# Altium schematic symbol library zynq_dev_V1.SchLib: 65 symbols (part 2 of 3)
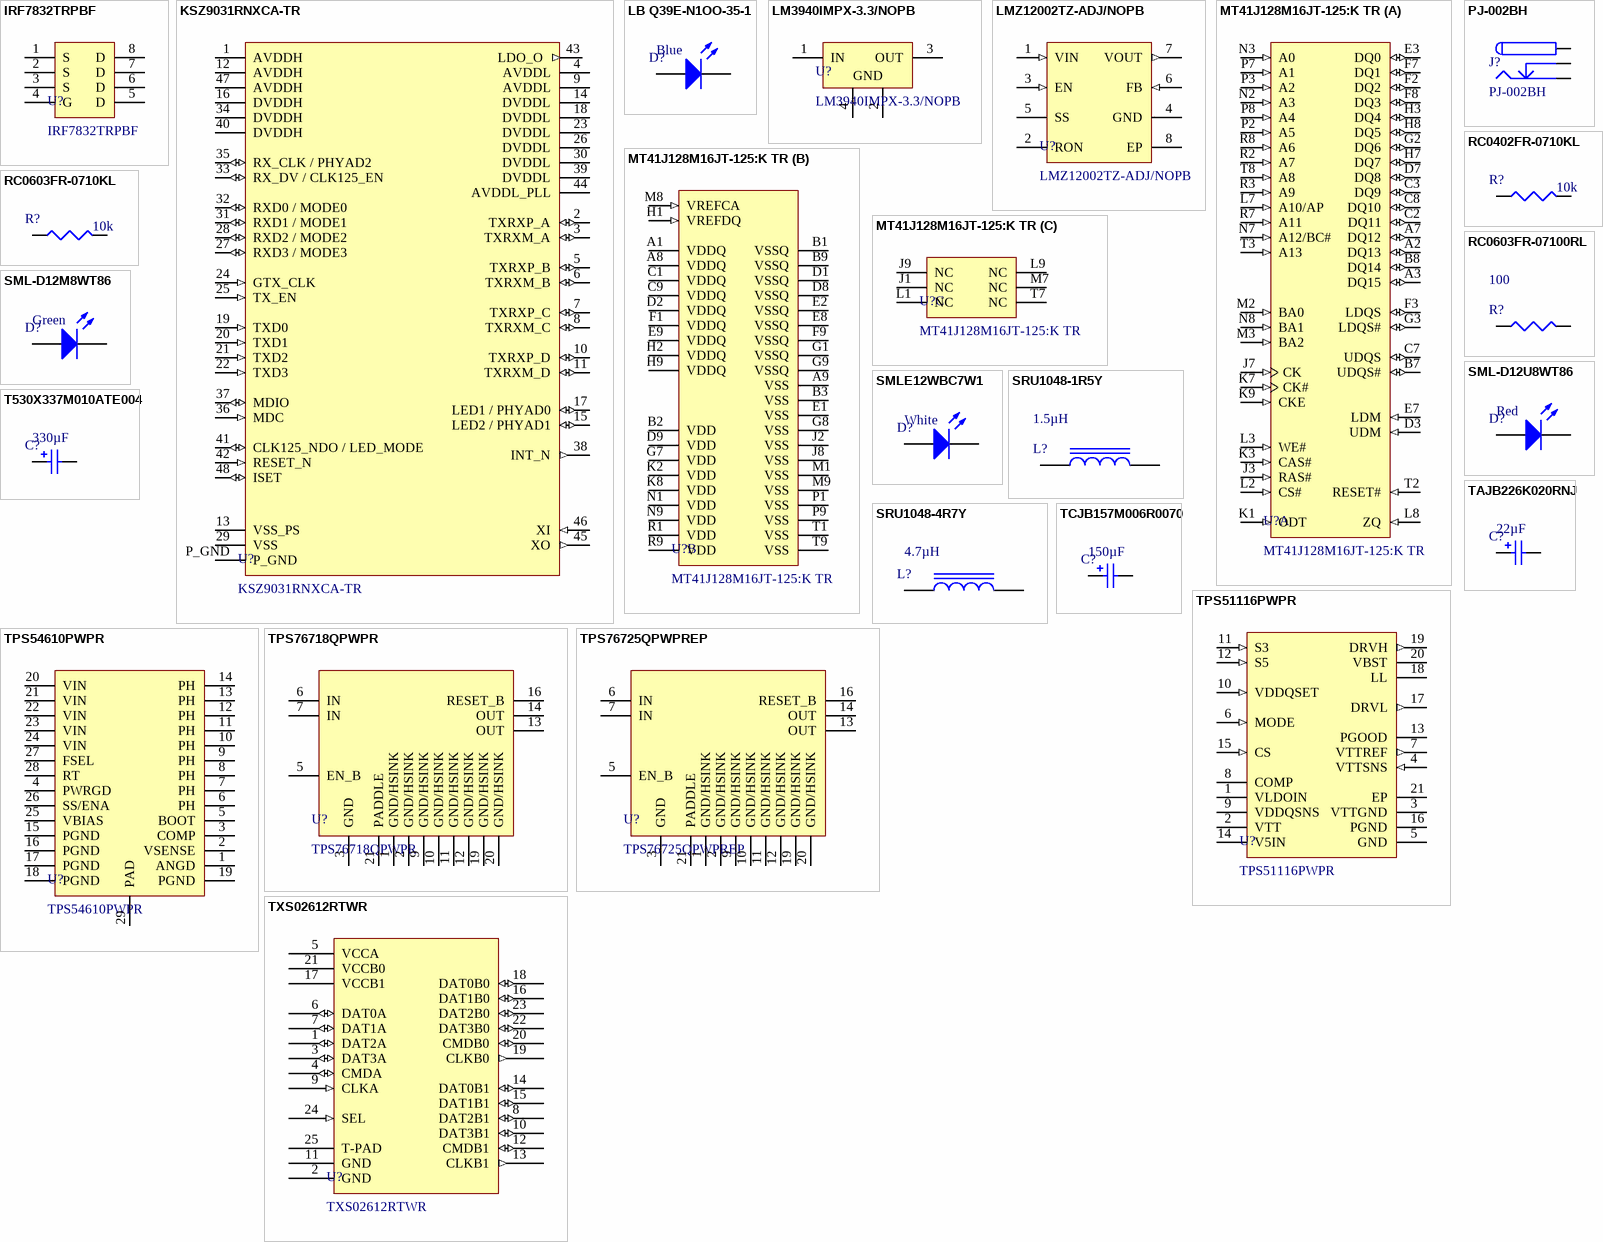
[diagram p4: symbols IRF7832TRPBF to TXS02612RTWR]

## LM3940IMPX-3.3/NOPB
designator U?
IC REG LDO 3.3V 1A SOT223; Manufacturer: Texas Instruments; Regulator Topology: Positive Fixed; Voltage - Dropout (Typical): 0.5V @ 1A; Number of Regulators: 1; Voltage - Input: Up to 7.5V; Supplier 1: Digi-Key; Manufacturer Part Number: LM3940IMPX-3.3/NOPB; RoHS: RoHS Compliant; Category: Integrated Circuits (ICs); Stock 1: 15650; Pricing 1: 1=1.49, 10=1.332, 100=1.0381, 500=0.85848, 1000=0.6789 (USD); Packaging: Cut Tape (CT); Voltage - Output: 3.3V; Current - Output: 1A; Current - Limit (Min): -; Operating Temperature: -40°C ~ 125°C; Mounting Type: Surface Mount; Package / Case: TO-261-4, TO-261AA; Supplier Device Package: SOT-223-4; ComponentLink1URL: http://www.ti.com/lit/ds/symlink/lm3940.pdf; ComponentLink1Description: http://www.ti.com/lit/ds/symlink/lm3940.pdf; Supplier Part Number 1: LM3940IMPX-3.3/NOPBCT-ND
footprint SOT230P700X180-4N (SOT223, 4-Leads, Body 6.50x7.00mm (avg), Pitch 2.30mm, IPC Medium Density)
pins: 1 IN (power) "Input pin.", 2 GND (power) "Ground pin", 3 OUT (power) "Regulated output voltage pin", 4 GND (power) "Ground pin"

## LMZ12002TZ-ADJ/NOPB
designator U?
IC BUCK SYNC ADJ 2A TO-PMOD-7; Manufacturer: Texas Instruments; Number of Outputs: 1; Voltage - Input (Min): 4.5V; Voltage - Input (Max): 20V; Voltage - Output 1: 0.8 ~ 6 V; Efficiency: 92%; Supplier 1: Digi-Key; Manufacturer Part Number: LMZ12002TZ-ADJ/NOPB; RoHS: RoHS Compliant; Category: Power Supplies - Board Mount; Stock 1: 1050; Pricing 1: 1=8.54, 5=8.474, 10=8.412, 25=8.2864, 50=8.0352, 100=7.2819 (USD); Packaging: Cut Tape (CT); Type: Non-Isolated PoL Module; Voltage - Output 2: -; Voltage - Output 3: -; Current - Output (Max): 2A; Power (Watts) - Manufacture Series: -; Voltage - Isolation: -; Applications: ITE (Commercial); Features: With UVLO; Mounting Type: Surface Mount; Package / Case: TO-PMOD-7, Power Module; Size / Dimension: 0.40" L x 0.54" W x 0.18" H (10.2mm x 13.8mm x 4.6mm); Operating Temperature: -40°C ~ 125°C; Power (Watts) - Max: -; ComponentLink1URL: http://www.ti.com/lit/ds/symlink/lmz12002.pdf; ComponentLink1Description: http://www.ti.com/lit/ds/symlink/lmz12002.pdf; Supplier Part Number 1: LMZ12002TZ-ADJ/NOPBCT-ND
footprint TZA07A_V (D2-PAK, 8-Leads, Body 9.9x10.2mm, Pitch 1.27mm, Lead Span 13.8mm, NSC Recommended)
pins: 1 VIN (in), 2 RON, 3 EN (in), 4 GND (power), 5 SS, 6 FB (in), 7 VOUT (out), 8 EP

## MT41J128M16JT-125:K TR
designator U?
IC DDR3 SDRAM 2GBIT 96FBGA; Manufacturer: Micron Technology Inc.; Format - Memory: RAM; Memory Size: 2G (128M x 16); Speed: 1.25ns; Interface: Parallel; Voltage - Supply: 1.425 V ~ 1.575 V; Supplier 1: Digi-Key; Manufacturer Part Number: MT41J128M16JT-125:K TR; RoHS: RoHS Compliant; Category: Integrated Circuits (ICs); Stock 1: 3472; Pricing 1: 1=4.47, 10=4.054, 25=3.966, 50=3.944, 100=3.538, 250=3.524, 500=3.394, 1000=3.228 (USD); Packaging: Cut Tape (CT); Memory Type: DDR3 SDRAM; Operating Temperature: 0°C ~ 95°C (TC); Package / Case: 96-TFBGA; Supplier Device Package: 96-FBGA (8x14); ComponentLink1URL: http://www.micron.com/~/media/Documents/Products/Data%20Sheet/DRAM/DDR3/2Gb_DDR3_SDRAM.pdf; ComponentLink1Description: http://www.micron.com/~/media/Documents/Products/Data%20Sheet/DRAM/DDR3/2Gb_DDR3_SDRAM.pdf; Supplier Part Number 1: 557-1611-1-ND
footprint MICT-JT-96 (BGA, 96-Balls, Body 14x8mm, Pitch 0.8mm)
part A pins: A2 DQ13 (io) "Data input/output: Upper byte of bidirectional data bus for the x16 configuration. DQ[15:8] are referenced to VREFDQ.", A3 DQ15 (io) "Data input/output: Upper byte of bidirectional data bus for the x16 configuration. DQ[15:8] are referenced to VREFDQ.", A7 DQ12 (io) "Data input/output: Upper byte of bidirectional data bus for the x16 configuration. DQ[15:8] are referenced to VREFDQ.", B7 UDQS# (io) "Upper byte data strobe: Output with read data. Edge-aligned with read data. Input with write data. UDQS is center-aligned to write data.", B8 DQ14 (io) "Data input/output: Upper byte of bidirectional data bus for the x16 configuration. DQ[15:8] are referenced to VREFDQ.", C2 DQ11 (io) "Data input/output: Upper byte of bidirectional data bus for the x16 configuration. DQ[15:8] are referenced to VREFDQ.", C3 DQ9 (io) "Data input/output: Upper byte of bidirectional data bus for the x16 configuration. DQ[15:8] are referenced to VREFDQ.", C7 UDQS (io) "Upper byte data strobe: Output with read data. Edge-aligned with read data. Input with write data. UDQS is center-aligned to write data.", C8 DQ10 (io) "Data input/output: Upper byte of bidirectional data bus for the x16 configuration. DQ[15:8] are referenced to VREFDQ.", D3 UDM (in) "Input data mask: UDM is an upper-byte, input mask signal for write data. Upper-byte input data is masked when UDM is sampled HIGH along with the input data during a write access. Although the UDM ball is input-only, the UDM (See Datasheet)", D7 DQ8 (io) "Data input/output: Upper byte of bidirectional data bus for the x16 configuration. DQ[15:8] are referenced to VREFDQ.", E3 DQ0 (io) "Data input/output: Lower byte of bidirectional data bus for the x16 configuration. DQ[7:0] are referenced to VREFDQ.", E7 LDM (in) "Input data mask: LDM is a lower-byte, input mask signal for write data. Lower-byte input data is masked when LDM is sampled HIGH along with the input data during a write access. Although the LDM ball is input-only, the LDM (See Datasheet)", F2 DQ2 (io) "Data input/output: Lower byte of bidirectional data bus for the x16 configuration. DQ[7:0] are referenced to VREFDQ.", F3 LDQS (io) "Lower byte data strobe: Output with read data. Edge-aligned with read data. Input with write data. LDQS is center-aligned to write data.", F7 DQ1 (io) "Data input/output: Lower byte of bidirectional data bus for the x16 configuration. DQ[7:0] are referenced to VREFDQ.", F8 DQ3 (io) "Data input/output: Lower byte of bidirectional data bus for the x16 configuration. DQ[7:0] are referenced to VREFDQ.", G2 DQ6 (io) "Data input/output: Lower byte of bidirectional data bus for the x16 configuration. DQ[7:0] are referenced to VREFDQ.", G3 LDQS# (io) "Lower byte data strobe: Output with read data. Edge-aligned with read data. Input with write data. LDQS is center-aligned to write data.", H3 DQ4 (io) "Data input/output: Lower byte of bidirectional data bus for the x16 configuration. DQ[7:0] are referenced to VREFDQ.", H7 DQ7 (io) "Data input/output: Lower byte of bidirectional data bus for the x16 configuration. DQ[7:0] are referenced to VREFDQ.", H8 DQ5 (io) "Data input/output: Lower byte of bidirectional data bus for the x16 configuration. DQ[7:0] are referenced to VREFDQ.", J3 RAS# (in) "Command inputs: RAS#, CAS#, and WE# (along with CS#) define the command being entered and are referenced to VREFCA.", J7 CK (in) "Clock: CK and CK# are differential clock inputs. All address and control input signals are sampled on the crossing of the positive edge of CK and the negative edge of CK#. Output data strobe (DQS, DQS#) is referenced to the (See Datasheet)", K1 ODT (in) "On-die termination: ODT enables (registered HIGH) and disables (registered LOW) termination resistance internal to the DDR3 SDRAM. When enabled in normal operation,ODT is only applied to each of the following balls: (See Datasheet)", K3 CAS# (in) "Command inputs: RAS#, CAS#, and WE# (along with CS#) define the command being entered and are referenced to VREFCA.", K7 CK# (in) "Clock: CK and CK# are differential clock inputs. All address and control input signals are sampled on the crossing of the positive edge of CK and the negative edge of CK#. Output data strobe (LDQS,L DQS#,UDQS,UDQS#) is (See Datasheet)", K9 CKE (in) "Clock enable: CKE enables (registered HIGH) and disables (registered LOW) internal circuitry and clocks on the DRAM. The specific circuitry that is enabled/disabled is dependent upon the DDR3 SDRAM configuration and (See Datasheet)", L2 CS# (in) "Chip select: CS# enables (registered LOW) and disables (registered HIGH) the command decoder. All commands are masked when CS# is registered HIGH. CS# provides for external rank selection on systems with multiple ranks. CS# (See Datasheet)", L3 WE# (in) "Command inputs: RAS#, CAS#, and WE# (along with CS#) define the command being entered and are referenced to VREFCA.", L7 A10/AP (in) "Address inputs: Provide the row address for ACTIVATE commands, and the column address and auto precharge bit (A10) for READ/WRITE commands, to select one location out of the memory array in the respective bank. A10 sampled (See Datasheet)", L8 ZQ (in) "External reference ball for output drive calibration: This ball is tied to an external 240ohm resistor (RZQ), which is tied to VSSQ.", M2 BA0 (in) "Bank address inputs: BA[2:0] define the bank to which an ACTIVATE, READ, WRITE, or PRECHARGE command is being applied. BA[2:0] define which mode register (MR0, MR1, MR2, or MR3) is loaded during the LOAD MODE command. (See Datasheet)", M3 BA2 (in) "Bank address inputs: BA[2:0] define the bank to which an ACTIVATE, READ, WRITE, or PRECHARGE command is being applied. BA[2:0] define which mode register (MR0, MR1, MR2, or MR3) is loaded during the LOAD MODE command. (See Datasheet)", N2 A3 (in) "Address inputs: Provide the row address for ACTIVATE commands, and the column address and auto precharge bit (A10) for READ/WRITE commands, to select one location out of the memory array in the respective bank. A10 sampled (See Datasheet)", N3 A0 (in) "Address inputs: Provide the row address for ACTIVATE commands, and the column address and auto precharge bit (A10) for READ/WRITE commands, to select one location out of the memory array in the respective bank. A10 sampled (See Datasheet)", N7 A12/BC# (in) "Address inputs: Provide the row address for ACTIVATE commands, and the column address and auto precharge bit (A10) for READ/WRITE commands, to select one location out of the memory array in the respective bank. A10 sampled (See Datasheet)", N8 BA1 (in) "Bank address inputs: BA[2:0] define the bank to which an ACTIVATE, READ, WRITE, or PRECHARGE command is being applied. BA[2:0] define which mode register (MR0, MR1, MR2, or MR3) is loaded during the LOAD MODE command. (See Datasheet)", P2 A5 (in) "Address inputs: Provide the row address for ACTIVATE commands, and the column address and auto precharge bit (A10) for READ/WRITE commands, to select one location out of the memory array in the respective bank. A10 sampled (See Datasheet)", P3 A2 (in) "Address inputs: Provide the row address for ACTIVATE commands, and the column address and auto precharge bit (A10) for READ/WRITE commands, to select one location out of the memory array in the respective bank. A10 sampled (See Datasheet)", P7 A1 (in) "Address inputs: Provide the row address for ACTIVATE commands, and the column address and auto precharge bit (A10) for READ/WRITE commands, to select one location out of the memory array in the respective bank. A10 sampled (See Datasheet)", P8 A4 (in) "Address inputs: Provide the row address for ACTIVATE commands, and the column address and auto precharge bit (A10) for READ/WRITE commands, to select one location out of the memory array in the respective bank. A10 sampled (See Datasheet)", R2 A7 (in) "Address inputs: Provide the row address for ACTIVATE commands, and the column address and auto precharge bit (A10) for READ/WRITE commands, to select one location out of the memory array in the respective bank. A10 sampled (See Datasheet)", R3 A9 (in) "Address inputs: Provide the row address for ACTIVATE commands, and the column address and auto precharge bit (A10) for READ/WRITE commands, to select one location out of the memory array in the respective bank. A10 sampled (See Datasheet)", R7 A11 (in) "Address inputs: Provide the row address for ACTIVATE commands, and the column address and auto precharge bit (A10) for READ/WRITE commands, to select one location out of the memory array in the respective bank. A10 sampled (See Datasheet)", R8 A6 (in) "Address inputs: Provide the row address for ACTIVATE commands, and the column address and auto precharge bit (A10) for READ/WRITE commands, to select one location out of the memory array in the respective bank. A10 sampled (See Datasheet)", T2 RESET# (in) "Reset: RESET# is an active LOW CMOS input referenced to VSS. The RESET# input receiver is a CMOS input defined as a rail-to-rail signal with DC HIGH >= 0.8 x VDDQ and DC LOW =< 0.2 x VDDQ. RESET# assertion and deassertion (See Datasheet)", T3 A13 (in) "Address inputs: Provide the row address for ACTIVATE commands, and the column address and auto precharge bit (A10) for READ/WRITE commands, to select one location out of the memory array in the respective bank. A10 sampled (See Datasheet)", T8 A8 (in) "Address inputs: Provide the row address for ACTIVATE commands, and the column address and auto precharge bit (A10) for READ/WRITE commands, to select one location out of the memory array in the respective bank. A10 sampled (See Datasheet)"
part B pins: A1 VDDQ (power) "DQ power supply: 1.35V, 1.283-1.45V operational; compatible with 1.5V operation.", A8 VDDQ (power) "DQ power supply: 1.35V, 1.283-1.45V operational; compatible with 1.5V operation.", A9 VSS (power) "Ground.", B1 VSSQ (power) "DQ ground: Isolated on the device for improved noise immunity.", B2 VDD (power) "Power supply: 1.35V, 1.283-1.45V operational; compatible to 1.5V operation.", B3 VSS (power) "Ground.", B9 VSSQ (power) "DQ ground: Isolated on the device for improved noise immunity.", C1 VDDQ (power) "DQ power supply: 1.35V, 1.283-1.45V operational; compatible with 1.5V operation.", C9 VDDQ (power) "DQ power supply: 1.35V, 1.283-1.45V operational; compatible with 1.5V operation.", D1 VSSQ (power) "DQ ground: Isolated on the device for improved noise immunity.", D2 VDDQ (power) "DQ power supply: 1.35V, 1.283-1.45V operational; compatible with 1.5V operation.", D8 VSSQ (power) "DQ ground: Isolated on the device for improved noise immunity.", D9 VDD (power) "Power supply: 1.35V, 1.283-1.45V operational; compatible to 1.5V operation.", E1 VSS (power) "Ground.", E2 VSSQ (power) "DQ ground: Isolated on the device for improved noise immunity.", E8 VSSQ (power) "DQ ground: Isolated on the device for improved noise immunity.", E9 VDDQ (power) "DQ power supply: 1.35V, 1.283-1.45V operational; compatible with 1.5V operation.", F1 VDDQ (power) "DQ power supply: 1.35V, 1.283-1.45V operational; compatible with 1.5V operation.", F9 VSSQ (power) "DQ ground: Isolated on the device for improved noise immunity.", G1 VSSQ (power) "DQ ground: Isolated on the device for improved noise immunity.", G7 VDD (power) "Power supply: 1.35V, 1.283-1.45V operational; compatible to 1.5V operation.", G8 VSS (power) "Ground.", G9 VSSQ (power) "DQ ground: Isolated on the device for improved noise immunity.", H1 VREFDQ (in) "Reference voltage for data: VREFDQ must be maintained at all times (including self refresh) for proper device operation.", H2 VDDQ (power) "DQ power supply: 1.35V, 1.283-1.45V operational; compatible with 1.5V operation.", H9 VDDQ (power) "DQ power supply: 1.35V, 1.283-1.45V operational; compatible with 1.5V operation.", J2 VSS (power) "Ground.", J8 VSS (power) "Ground.", K2 VDD (power) "Power supply: 1.35V, 1.283-1.45V operational; compatible to 1.5V operation.", K8 VDD (power) "Power supply: 1.35V, 1.283-1.45V operational; compatible to 1.5V operation.", M1 VSS (power) "Ground.", M8 VREFCA (in) "Reference voltage for control, command, and address: VREFCA must be maintained at all times (including self refresh) for proper device operation.", M9 VSS (power) "Ground.", N1 VDD (power) "Power supply: 1.35V, 1.283-1.45V operational; compatible to 1.5V operation.", N9 VDD (power) "Power supply: 1.35V, 1.283-1.45V operational; compatible to 1.5V operation.", P1 VSS (power) "Ground.", P9 VSS (power) "Ground.", R1 VDD (power) "Power supply: 1.35V, 1.283-1.45V operational; compatible to 1.5V operation.", R9 VDD (power) "Power supply: 1.35V, 1.283-1.45V operational; compatible to 1.5V operation.", T1 VSS (power) "Ground.", T9 VSS (power) "Ground."
part C pins: J1 NC "No connect: These balls should be left unconnected (the ball has no connection to the DRAM or to other balls).", J9 NC "No connect: These balls should be left unconnected (the ball has no connection to the DRAM or to other balls).", L1 NC "No connect: These balls should be left unconnected (the ball has no connection to the DRAM or to other balls).", L9 NC "No connect: These balls should be left unconnected (the ball has no connection to the DRAM or to other balls).", M7 NC "No connect: These balls should be left unconnected (the ball has no connection to the DRAM or to other balls).", T7 NC "No connect: These balls should be left unconnected (the ball has no connection to the DRAM or to other balls)."

## PJ-002BH
designator J?
CONN PWR JACK 2.5X5.5MM HIGH CUR; Manufacturer: CUI Inc.; Gender: Male; Plug/Mating Plug Diameter: 2.5mm ID, 5.5mm OD; Number of Positions/Contacts: 2 Conductors, 3 Contacts; Internal Switch(s): Single Switch, Normally Closed; Shielding: Unshielded; Voltage - Rated: 24VDC; Current Rating: 5A; Supplier 1: Digi-Key; Manufacturer Part Number: PJ-002BH; RoHS: RoHS Compliant; Category: Connectors, Interconnects; Stock 1: 59401; Pricing 1: 1=1.16, 10=0.812, 100=0.5452, 500=0.4408, 1000=0.3944, 2500=0.3132 (USD); Connector Type: Jack; Mounting Type: Through Hole, Right Angle; Termination: Solder Eyelet(s); Features: -; Color: Black; Contact Material: Copper Alloy; Contact Material - Plating: Nickel; Housing Color: Black; Housing Material: Thermoplastic; Operating Temperature: -25°C ~ 85°C; ComponentLink1URL: http://www.cui.com/product/resource/digikeypdf/pj-002bh.pdf; ComponentLink1Description: http://www.cui.com/product/resource/digikeypdf/pj-002bh.pdf; Supplier Part Number 1: CP-002BH-ND
footprint PJ-002BH (2.5 mm Center Pin, 5.0 A, Right Angle, Through Hole, Dc Power Jack Connector)
pins: 1 (power), 2 (power), 3 (power)

## RC0402FR-0710KL
designator R?  Resistance (Ohms): 10k  (hidden comment: RC0402FR-0710KL)
RES SMD 10K OHM 1% 1/16W 0402; Manufacturer: Yageo; Power (Watts): 0.063W, 1/16W; Temperature Coefficient: ±100ppm/°C; Supplier 1: Digi-Key; Manufacturer Part Number: RC0402FR-0710KL; RoHS: RoHS Compliant; Category: Resistors; Stock 1: 6043320; Pricing 1: 1=0.1, 10=0.013, 25=0.0096, 100=0.0054, 250=0.00412, 500=0.00328, 1000=0.00242, 2500=0.0021, 5000=0.00173 (USD); Packaging: Cut Tape (CT); Tolerance: ±1%; Composition: Thick Film; Features: Moisture Resistant; Operating Temperature: -55°C ~ 155°C; Package / Case: 0402 (1005 Metric); Supplier Device Package: 0402; Size / Dimension: 0.039" L x 0.020" W (1.00mm x 0.50mm); Height: 0.016" (0.40mm); Number of Terminations: 2; ComponentLink1URL: http://www.yageo.com/NewPortal/yageodocoutput?fileName=/pdf/R-Chip/PYu-RC_Group_51_RoHS_L_3.pdf; ComponentLink1Description: http://www.yageo.com/NewPortal/yageodocoutput?fileName=/pdf/R-Chip/PYu-RC_Group_51_RoHS_L_3.pdf; Supplier Part Number 1: 311-10.0KLRCT-ND
footprint R0402 (Chip Resistor, 2-Leads, Body 1.00x0.50mm, IPC Medium Density)
pins: 1, 2

## RC0603FR-0710KL
designator R?  Resistance (Ohms): 10k  (hidden comment: RC0603FR-0710KL)
RES SMD 10K OHM 1% 1/10W 0603; Manufacturer: Yageo; Power (Watts): 0.1W, 1/10W; Temperature Coefficient: ±100ppm/°C; Supplier 1: Digi-Key; Manufacturer Part Number: RC0603FR-0710KL; RoHS: RoHS Compliant; Category: Resistors; Stock 1: 16651166; Pricing 1: 1=0.1, 10=0.014, 25=0.01, 100=0.0057, 250=0.00436, 500=0.00348, 1000=0.00257, 2500=0.00223 (USD); Packaging: Cut Tape (CT); Tolerance: ±1%; Composition: Thick Film; Features: Moisture Resistant; Operating Temperature: -55°C ~ 155°C; Package / Case: 0603 (1608 Metric); Supplier Device Package: 0603; Size / Dimension: 0.063" L x 0.031" W (1.60mm x 0.80mm); Height: 0.022" (0.55mm); Number of Terminations: 2; ComponentLink1URL: http://www.yageo.com/NewPortal/yageodocoutput?fileName=/pdf/R-Chip/PYu-RC_Group_51_RoHS_L_3.pdf; ComponentLink1Description: http://www.yageo.com/NewPortal/yageodocoutput?fileName=/pdf/R-Chip/PYu-RC_Group_51_RoHS_L_3.pdf; Supplier Part Number 1: 311-10.0KHRCT-ND
footprint R0603 (Chip Resistor, 2-Leads, Body 1.60x0.80mm, IPC Medium Density)
pins: 1, 2

## RC0603FR-07100RL
designator R?  Resistance (Ohms): 100  (hidden comment: RC0603FR-07100RL)
RES SMD 100 OHM 1% 1/10W 0603; Manufacturer: Yageo; Power (Watts): 0.1W, 1/10W; Temperature Coefficient: ±100ppm/°C; Supplier 1: Digi-Key; Manufacturer Part Number: RC0603FR-07100RL; RoHS: RoHS Compliant; Category: Resistors; Stock 1: 2614734; Pricing 1: 1=0.1, 10=0.014, 25=0.01, 100=0.0057, 250=0.00436, 500=0.00348, 1000=0.00257, 2500=0.00223 (USD); Packaging: Cut Tape (CT); Tolerance: ±1%; Composition: Thick Film; Features: Moisture Resistant; Operating Temperature: -55°C ~ 155°C; Package / Case: 0603 (1608 Metric); Supplier Device Package: 0603; Size / Dimension: 0.063" L x 0.031" W (1.60mm x 0.80mm); Height: 0.022" (0.55mm); Number of Terminations: 2; ComponentLink1URL: http://www.yageo.com/NewPortal/yageodocoutput?fileName=/pdf/R-Chip/PYu-RC_Group_51_RoHS_L_3.pdf; ComponentLink1Description: http://www.yageo.com/NewPortal/yageodocoutput?fileName=/pdf/R-Chip/PYu-RC_Group_51_RoHS_L_3.pdf; Supplier Part Number 1: 311-100HRCT-ND
footprint R0603 (Chip Resistor, 2-Leads, Body 1.60x0.80mm, IPC Medium Density)
pins: 1, 2

## SML-D12M8WT86
designator D?  Color: Green  (hidden comment: SML-D12M8WT86)
LED GREEN DIFFUSED 0603 SMD; Manufacturer: Rohm Semiconductor; Lens Color: White; Millicandela Rating: 25mcd; Lens Style/Size: Rectangle with Flat Top, 1.20mm x 0.80mm; Voltage - Forward (Vf) (Typ): 2.2V; Current - Test: 20mA; Wavelength - Dominant: 572nm; Supplier 1: Digi-Key; Manufacturer Part Number: SML-D12M8WT86; RoHS: RoHS Compliant; Category: Optoelectronics; Stock 1: 36910; Pricing 1: 1=0.34, 10=0.264, 25=0.228, 100=0.144, 250=0.096, 500=0.0816, 1000=0.0624 (USD); Packaging: Cut Tape (CT); Lens Transparency: Diffused; Viewing Angle: -; Mounting Type: Surface Mount; Wavelength - Peak: -; Features: -; Package / Case: 0603 (1608 Metric); Supplier Device Package: 0603 (1608 Metric); Size / Dimension: 1.60mm L x 0.80mm W; Height (Max): 0.65mm; ComponentLink1URL: http://rohmfs.rohm.com/en/products/databook/datasheet/opto/led/chip_mono/sml-d1.pdf; ComponentLink1Description: http://rohmfs.rohm.com/en/products/databook/datasheet/opto/led/chip_mono/sml-d1.pdf; Supplier Part Number 1: 511-1578-1-ND
pins: 1 A, 2 K

## SML-D12U8WT86
designator D?  Color: Red  (hidden comment: SML-D12U8WT86)
LED RED DIFFUSED 0603 SMD; Manufacturer: Rohm Semiconductor; Lens Color: White; Millicandela Rating: 63mcd; Lens Style/Size: Rectangle with Flat Top, 1.20mm x 0.80mm; Voltage - Forward (Vf) (Typ): 2.2V; Current - Test: 20mA; Wavelength - Dominant: 620nm; Supplier 1: Digi-Key; Manufacturer Part Number: SML-D12U8WT86; RoHS: RoHS Compliant; Category: Optoelectronics; Stock 1: 13583; Pricing 1: 1=0.34, 10=0.264, 25=0.228, 100=0.144, 250=0.096, 500=0.0816, 1000=0.0624 (USD); Packaging: Cut Tape (CT); Lens Transparency: Diffused; Viewing Angle: -; Mounting Type: Surface Mount; Wavelength - Peak: -; Features: -; Package / Case: 0603 (1608 Metric); Supplier Device Package: 0603 (1608 Metric); Size / Dimension: 1.60mm L x 0.80mm W; Height (Max): 0.65mm; ComponentLink1URL: http://rohmfs.rohm.com/en/products/databook/datasheet/opto/led/chip_mono/sml-d1.pdf; ComponentLink1Description: http://rohmfs.rohm.com/en/products/databook/datasheet/opto/led/chip_mono/sml-d1.pdf; Supplier Part Number 1: 511-1580-1-ND
pins: 1 A, 2 K

## SMLE12WBC7W1
designator D?  Color: White  (hidden comment: SMLE12WBC7W1)
LED WHITE DIFFUSED 0603 SMD; Manufacturer: Rohm Semiconductor; Millicandela Rating: 71mcd; Lens Style/Size: Rectangle with Flat Top, 1.20mm x 0.80mm; Voltage - Forward (Vf) (Typ): 2.9V; Current - Test: 5mA; Supplier 1: Digi-Key; Manufacturer Part Number: SMLE12WBC7W1; RoHS: RoHS Compliant; Category: Optoelectronics; Stock 1: 29713; Pricing 1: 1=0.75, 10=0.578, 25=0.48, 100=0.4125, 250=0.36, 500=0.315, 1000=0.2475, 2500=0.225 (USD); Packaging: Cut Tape (CT); Lens Color: White; Lens Transparency: Diffused; Viewing Angle: -; Mounting Type: Surface Mount; Wavelength - Dominant: -; Wavelength - Peak: -; Features: -; Package / Case: 0603 (1608 Metric); Supplier Device Package: 0603 (1608 Metric); Size / Dimension: 1.60mm L x 0.80mm W; Height (Max): 0.46mm; ComponentLink1URL: http://rohmfs.rohm.com/en/products/databook/datasheet/opto/led/chip_mono/sml-e1.pdf; ComponentLink1Description: http://rohmfs.rohm.com/en/products/databook/datasheet/opto/led/chip_mono/sml-e1.pdf; Supplier Part Number 1: 511-1602-1-ND
pins: 1 A, 2 K

## SRU1048-1R5Y
designator L?  Inductance: 1.5µH  (hidden comment: SRU1048-1R5Y)
FIXED IND 1.5UH 7A 4.3 MOHM SMD; Manufacturer: Bourns Inc.; Type: Wirewound; Material - Core: Ferrite; Tolerance: ±30%; Current - Saturation: 7.2A; Shielding: Shielded; Q @ Freq: 14 @ 7.96MHz; Frequency - Self Resonant: 70MHz; Frequency - Test: 100kHz; Supplier 1: Digi-Key; Manufacturer Part Number: SRU1048-1R5Y; RoHS: RoHS Compliant; Category: Inductors, Coils, Chokes; Stock 1: 1754; Pricing 1: 1=0.8, 10=0.75, 25=0.7, 50=0.6, 100=0.57, 250=0.52 (USD); Packaging: Cut Tape (CT); Current Rating: 7A; DC Resistance (DCR): 4.3 mOhm; Ratings: -; Operating Temperature: -40°C ~ 125°C; Mounting Type: Surface Mount; Package / Case: Nonstandard; Size / Dimension: 0.394" L x 0.394" W (10.00mm x 10.00mm); Height - Seated (Max): 0.201" (5.10mm); ComponentLink1URL: http://www.bourns.com/docs/Product-Datasheets/SRU1048.pdf; ComponentLink1Description: http://www.bourns.com/docs/Product-Datasheets/SRU1048.pdf; Supplier Part Number 1: SRU1048-1R5YCT-ND
footprint INDP9898X51N (Precision Wire Wound Inductor, 2-Leads, Body 9.80x9.80mm, IPC Medium Density)
pins: 1, 2

## SRU1048-4R7Y
designator L?  Inductance: 4.7µH  (hidden comment: SRU1048-4R7Y)
FIXED IND 4.7UH 5.5A 9.5 MOHM; Manufacturer: Bourns Inc.; Type: Wirewound; Material - Core: Ferrite; Tolerance: ±30%; Current - Saturation: 4.75A; Shielding: Shielded; Q @ Freq: 12 @ 7.96MHz; Frequency - Self Resonant: 30MHz; Frequency - Test: 100kHz; Supplier 1: Digi-Key; Manufacturer Part Number: SRU1048-4R7Y; RoHS: RoHS Compliant; Category: Inductors, Coils, Chokes; Stock 1: 6353; Pricing 1: 1=0.8, 10=0.75, 25=0.7, 50=0.6, 100=0.57, 250=0.52 (USD); Packaging: Cut Tape (CT); Current Rating: 5.5A; DC Resistance (DCR): 9.5 mOhm; Ratings: -; Operating Temperature: -40°C ~ 125°C; Mounting Type: Surface Mount; Package / Case: Nonstandard; Size / Dimension: 0.394" L x 0.394" W (10.00mm x 10.00mm); Height - Seated (Max): 0.201" (5.10mm); ComponentLink1URL: http://www.bourns.com/docs/Product-Datasheets/SRU1048.pdf; ComponentLink1Description: http://www.bourns.com/docs/Product-Datasheets/SRU1048.pdf; Supplier Part Number 1: SRU1048-4R7YCT-ND
footprint INDP9898X51N (Precision Wire Wound Inductor, 2-Leads, Body 9.80x9.80mm, IPC Medium Density)
pins: 1, 2

## T530X337M010ATE004
designator C?  Capacitance: 330µF  (hidden comment: T530X337M010ATE004)
CAP TANT POLY 330UF 10V 2917; Manufacturer: Kemet; Manufacturer Size Code: X; Tolerance: ±20%; ESR (Equivalent Series Resistance): 4 mOhm; Type: Molded; Lifetime @ Temp.: 2000 Hrs @ 105°C; Supplier 1: Digi-Key; Manufacturer Part Number: T530X337M010ATE004; RoHS: RoHS Compliant; Category: Capacitors; Stock 1: 1250; Pricing 1: 1=8.22, 10=7.685, 50=7.2876, 100=6.625, 250=5.69752 (USD); Packaging: Cut Tape (CT); Voltage - Rated: 10V; Operating Temperature: -55°C ~ 125°C; Mounting Type: Surface Mount; Package / Case: 2917 (7343 Metric); Size / Dimension: 0.287" L x 0.169" W (7.30mm x 4.30mm); Height - Seated (Max): 0.169" (4.30mm); Lead Spacing: -; Features: General Purpose; ComponentLink1URL: http://www.kemet.com/docfinder?Partnumber=T530X337M010ATE004; ComponentLink1Description: http://www.kemet.com/docfinder?Partnumber=T530X337M010ATE004; Supplier Part Number 1: 399-10378-1-ND
footprint CAP_POL_2917 (Molded Capacitor, 2-Leads, Body 7.30x4.30mm, IPC Medium Density)
pins: 1, 2

## TAJB226K020RNJ
designator C?  Capacitance: 22µF  (hidden comment: TAJB226K020RNJ)
CAP TANT 22UF 20V 10% 1210; Manufacturer: AVX Corporation; Manufacturer Size Code: B; ESR (Equivalent Series Resistance): 1.8 Ohm; Type: Molded; Supplier 1: Digi-Key; Manufacturer Part Number: TAJB226K020RNJ; RoHS: RoHS Compliant; Category: Capacitors; Stock 1: 649792; Pricing 1: 1=0.88, 10=0.838, 100=0.4063, 250=0.33752, 500=0.30626, 1000=0.28125 (USD); Packaging: Cut Tape (CT); Tolerance: ±10%; Voltage - Rated: 20V; Operating Temperature: -55°C ~ 125°C; Mounting Type: Surface Mount; Package / Case: 1210 (3528 Metric); Size / Dimension: 0.138" L x 0.110" W (3.50mm x 2.80mm); Height - Seated (Max): 0.083" (2.10mm); Lead Spacing: -; Features: General Purpose; Lifetime @ Temp.: -; ComponentLink1URL: http://datasheets.avx.com/TAJ.pdf; ComponentLink1Description: http://datasheets.avx.com/TAJ.pdf; Supplier Part Number 1: 478-1683-1-ND
footprint CAP_POL_1210 (Molded Capacitor, 2-Leads, Body 3.50x2.85mm, IPC Medium Density)
pins: 1, 2

## TCJB157M006R0070
designator C?  Capacitance: 150µF  (hidden comment: TCJB157M006R0070)
CAP TANT POLY 150UF 6.3V 1210; Manufacturer: AVX Corporation; Manufacturer Size Code: B; Tolerance: ±20%; ESR (Equivalent Series Resistance): 70 mOhm; Type: Molded; Supplier 1: Digi-Key; Manufacturer Part Number: TCJB157M006R0070; RoHS: RoHS Compliant; Category: Capacitors; Stock 1: 9013; Pricing 1: 1=2.48, 10=2.03, 100=1.4355, 250=1.188, 500=1.06426, 1000=0.9405 (USD); Packaging: Cut Tape (CT); Voltage - Rated: 6.3V; Operating Temperature: -55°C ~ 105°C; Mounting Type: Surface Mount; Package / Case: 1210 (3528 Metric); Size / Dimension: 0.138" L x 0.110" W (3.50mm x 2.80mm); Height - Seated (Max): 0.083" (2.10mm); Lead Spacing: -; Features: Polymer; Lifetime @ Temp.: -; ComponentLink1URL: http://datasheets.avx.com/TCJ.pdf; ComponentLink1Description: http://datasheets.avx.com/TCJ.pdf; Supplier Part Number 1: 478-4921-1-ND
footprint CAP_POL_1210 (Molded Capacitor, 2-Leads, Body 3.50x2.85mm, IPC Medium Density)
pins: 1, 2

## TPS51116PWPR
designator U?
IC DDR SYNC BUC CTRL REF20HTSSOP; Manufacturer: Texas Instruments; Voltage - Input: 3 V ~ 28 V; Number of Outputs: 1; Voltage - Output: 1.5V, 1.8V, 2.5V; Supplier 1: Digi-Key; Manufacturer Part Number: TPS51116PWPR; RoHS: RoHS Compliant; Category: Integrated Circuits (ICs); Stock 1: 935; Pricing 1: 1=3.02, 10=2.711, 100=2.1747, 500=1.7874, 1000=1.24125 (USD); Packaging: Cut Tape (CT); Applications: Controller, DDR; Operating Temperature: -40°C ~ 85°C; Mounting Type: Surface Mount; Package / Case: 20-TSSOP (0.173", 4.40mm Width) Exposed Pad; Supplier Device Package: 20-HTSSOP; ComponentLink1URL: http://www.ti.com/lit/ds/symlink/tps51116.pdf; ComponentLink1Description: http://www.ti.com/lit/ds/symlink/tps51116.pdf; Supplier Part Number 1: 296-26972-1-ND
footprint TSOP65P640X120_HS-21N (TSOP, 20-Leads, Body 6.50x4.40mm, Pitch 0.65mm, Thermal Pad 3.70x2.40mm, IPC Medium Density)
pins: 1 VLDOIN (power) "Power supply for the VTT LDO.", 2 VTT (power) "Power output for the VTT LDO.", 3 VTTGND (power) "Power ground output for the VTT LDO.", 4 VTTSNS (in) "Voltage sense input for the VTT LDO. Connect to plus terminal of the VTT LDO output capacitor.", 5 GND (power) "Signal ground. Connect to minus terminal of the VTT LDO output capacitor.", 6 MODE (in) "Discharge mode setting pin. See VDDQ and VTT Discharge Control section.", 7 VTTREF (out) "VTTREF buffered reference output.", 8 COMP "Output of the transconductance amplifier for phase compensation. Connect to V5IN to disable gm amplifier and use D-CAP mode.", 9 VDDQSNS "VDDQ reference input for VTT and VTTREF. Power supply for the VTTREF. Discharge current sinking terminal for VDDQ Non-tracking discharge. Output voltage feedback input for VDDQ output if VDDQSET pin is connected to V5IN or (See Datasheet)", 10 VDDQSET (in) "VDDQ output voltage setting pin. See VDDQ Output Voltage Selection section.", 11 S3 (in) "S3 signal input.", 12 S5 (in) "S5 signal input.", 13 PGOOD (oc) "Powergood signal open drain output, In HIGH state when VDDQ output voltage is within the target range.", 14 V5IN (power) "5-V power supply input for internal circuits (PWP) and MOSFET gate drivers (PWP, RGE).", 15 CS (in) "Current sense comparator input (-) for resistor current sense scheme. Or overcurrent trip voltage setting input for RDS(on) current sense scheme if connected to V5IN (PWP), V5FILT (RGE) through the voltage setting resistor.", 16 PGND (power) "Ground for rectifying (bottom) MOSFET gate driver (PWP, RGE). Also current sense comparator input(+) and ground for powergood circuit (PWP).", 17 DRVL (out) "Rectifying (bottom) MOSFET gate drive output.", 18 LL (power) "Switching (top) MOSFET gate driver return. Current sense comparator input (-) for RDS(on) current sense.", 19 DRVH (out) "Switching (top) MOSFET gate drive output.", 20 VBST (power) "Switching (top) MOSFET driver bootstrap voltage input.", 21 EP (power) "Exposed Thermal Pad."

## TPS54610PWPR
designator U?
IC REG BUCK ADJ 6A SYNC 28HTSSOP; Manufacturer: Texas Instruments; Function: Step-Down; Output Configuration: Positive; Output Type: Adjustable; Number of Outputs: 1; Voltage - Input (Min): 3V; Voltage - Input (Max): 6V; Voltage - Output (Min/Fixed): 0.891V; Voltage - Output (Max): 5.4V; Frequency - Switching: 350kHz, 550kHz; Synchronous Rectifier: Yes; Supplier 1: Digi-Key; Manufacturer Part Number: TPS54610PWPR; RoHS: RoHS Compliant; Category: Integrated Circuits (ICs); Stock 1: 3948; Pricing 1: 1=6.84, 10=6.194, 100=5.1057, 500=4.464, 1000=3.4875 (USD); Packaging: Cut Tape (CT); Topology: Buck; Current - Output: 6A; Operating Temperature: -40°C ~ 85°C (TA); Mounting Type: Surface Mount; Package / Case: 28-TSSOP (0.173", 4.40mm Width) Exposed Pad; Supplier Device Package: 28-HTSSOP; ComponentLink1URL: http://www.ti.com/lit/ds/symlink/tps54610.pdf; ComponentLink1Description: http://www.ti.com/lit/ds/symlink/tps54610.pdf; Supplier Part Number 1: 296-26998-1-ND
footprint TSOP65P640X120_HS-29N (TSOP, 28-Leads, Body 9.70x4.40mm, Pitch 0.65mm, Thermal Pad 6.17x2.40mm, IPC Medium Density)
pins: 1 ANGD, 2 VSENSE, 3 COMP, 4 PWRGD, 5 BOOT, 6 PH, 7 PH, 8 PH, 9 PH, 10 PH, 11 PH, 12 PH, 13 PH, 14 PH, 15 PGND, 16 PGND, 17 PGND, 18 PGND, 19 PGND, 20 VIN, 21 VIN, 22 VIN, 23 VIN, 24 VIN, 25 VBIAS, 26 SS/ENA, 27 FSEL, 28 RT, 29 PAD

## TPS76718QPWPR
designator U?
IC REG LDO 1.8V 1A 20HTSSOP; Manufacturer: Texas Instruments; Regulator Topology: Positive Fixed; Number of Regulators: 1; Voltage - Input: 2.7 V ~ 10 V; Current - Limit (Min): 1.2A; Supplier 1: Digi-Key; Manufacturer Part Number: TPS76718QPWPR; RoHS: RoHS Compliant; Category: Integrated Circuits (ICs); Stock 1: 779; Pricing 1: 1=3.1, 10=2.778, 100=2.2793, 500=1.93914, 1000=1.4175 (USD); Packaging: Cut Tape (CT); Voltage - Output: 1.8V; Current - Output: 1A; Voltage - Dropout (Typical): -; Operating Temperature: -40°C ~ 125°C; Mounting Type: Surface Mount; Package / Case: 20-TSSOP (0.173", 4.40mm Width) Exposed Pad; Supplier Device Package: 20-HTSSOP; ComponentLink1URL: http://www.ti.com/lit/ds/symlink/tps76701.pdf; ComponentLink1Description: http://www.ti.com/lit/ds/symlink/tps76701.pdf; Supplier Part Number 1: 296-37450-1-ND
footprint TSOP65P640X120_HS-21N (TSOP, 20-Leads, Body 6.50x4.40mm, Pitch 0.65mm, Thermal Pad 3.70x2.40mm, IPC Medium Density)
pins: 1 GND/HSINK, 2 GND/HSINK, 3 GND, 5 EN_B, 6 IN, 7 IN, 9 GND/HSINK, 10 GND/HSINK, 11 GND/HSINK, 12 GND/HSINK, 13 OUT, 14 OUT, 16 RESET_B, 19 GND/HSINK, 20 GND/HSINK, 21 PADDLE

## TPS76725QPWPREP
designator U?
IC REG LDO 2.5V 1A 20HTSSOP; Manufacturer: Texas Instruments; Regulator Topology: Positive Fixed; Number of Regulators: 1; Voltage - Input: 2.7 V ~ 10 V; Supplier 1: Digi-Key; Manufacturer Part Number: TPS76725QPWPREP; RoHS: RoHS non-compliant; Category: Integrated Circuits (ICs); Stock 1: 1442; Pricing 1: 1=3.69, 10=3.308, 100=2.7135, 500=2.3085, 1000=1.6875 (USD); Packaging: Cut Tape (CT); Voltage - Output: 2.5V; Current - Output: 1A; Voltage - Dropout (Typical): -; Current - Limit (Min): -; Operating Temperature: -40°C ~ 125°C; Mounting Type: Surface Mount; Package / Case: 20-TSSOP (0.173", 4.40mm Width) Exposed Pad; Supplier Device Package: 20-HTSSOP; ComponentLink1URL: http://www.ti.com/lit/ds/symlink/tps76715-ep.pdf; ComponentLink1Description: http://www.ti.com/lit/ds/symlink/tps76715-ep.pdf; Supplier Part Number 1: 296-18157-1-ND
footprint TSOP65P640X120_HS-21N (TSOP, 20-Leads, Body 6.50x4.40mm, Pitch 0.65mm, Thermal Pad 3.70x2.40mm, IPC Medium Density)
pins: 1 GND/HSINK, 2 GND/HSINK, 3 GND, 5 EN_B, 6 IN, 7 IN, 9 GND/HSINK, 10 GND/HSINK, 11 GND/HSINK, 12 GND/HSINK, 13 OUT, 14 OUT, 16 RESET_B, 19 GND/HSINK, 20 GND/HSINK, 21 PADDLE

## TXS02612RTWR
designator U?
IC SDIO PORT EXPANDER 24WQFN; Manufacturer: Texas Instruments; Voltage - Supply: 1.1 V ~ 3.6 V; Supplier 1: Digi-Key; Manufacturer Part Number: TXS02612RTWR; RoHS: RoHS Compliant; Category: Integrated Circuits (ICs); Stock 1: 9728; Pricing 1: 1=1.6, 10=1.429, 100=1.1139, 500=0.9212, 1000=0.7285 (USD); Packaging: Cut Tape (CT); Applications: Cell Phone; Interface: SDIO; Package / Case: 24-WQFN Exposed Pad; Supplier Device Package: 24-WQFN (4x4); Mounting Type: Surface Mount; ComponentLink1URL: http://www.ti.com/lit/ds/symlink/txs02612.pdf; ComponentLink1Description: http://www.ti.com/lit/ds/symlink/txs02612.pdf; Supplier Part Number 1: 296-23869-1-ND
pins: 1 DAT2A (io), 2 GND (power), 3 DAT3A (io), 4 CMDA (io), 5 VCCA (power), 6 DAT0A (io), 7 DAT1A (io), 8 DAT2B1 (io), 9 CLKA (in), 10 DAT3B1 (io), 11 GND (power), 12 CMDB1 (io), 13 CLKB1 (out), 14 DAT0B1 (io), 15 DAT1B1 (io), 16 DAT1B0 (io), 17 VCCB1 (power), 18 DAT0B0 (io), 19 CLKB0 (out), 20 CMDB0 (io), 21 VCCB0 (power), 22 DAT3B0 (io), 23 DAT2B0 (io), 24 SEL (in), 25 T-PAD (power)

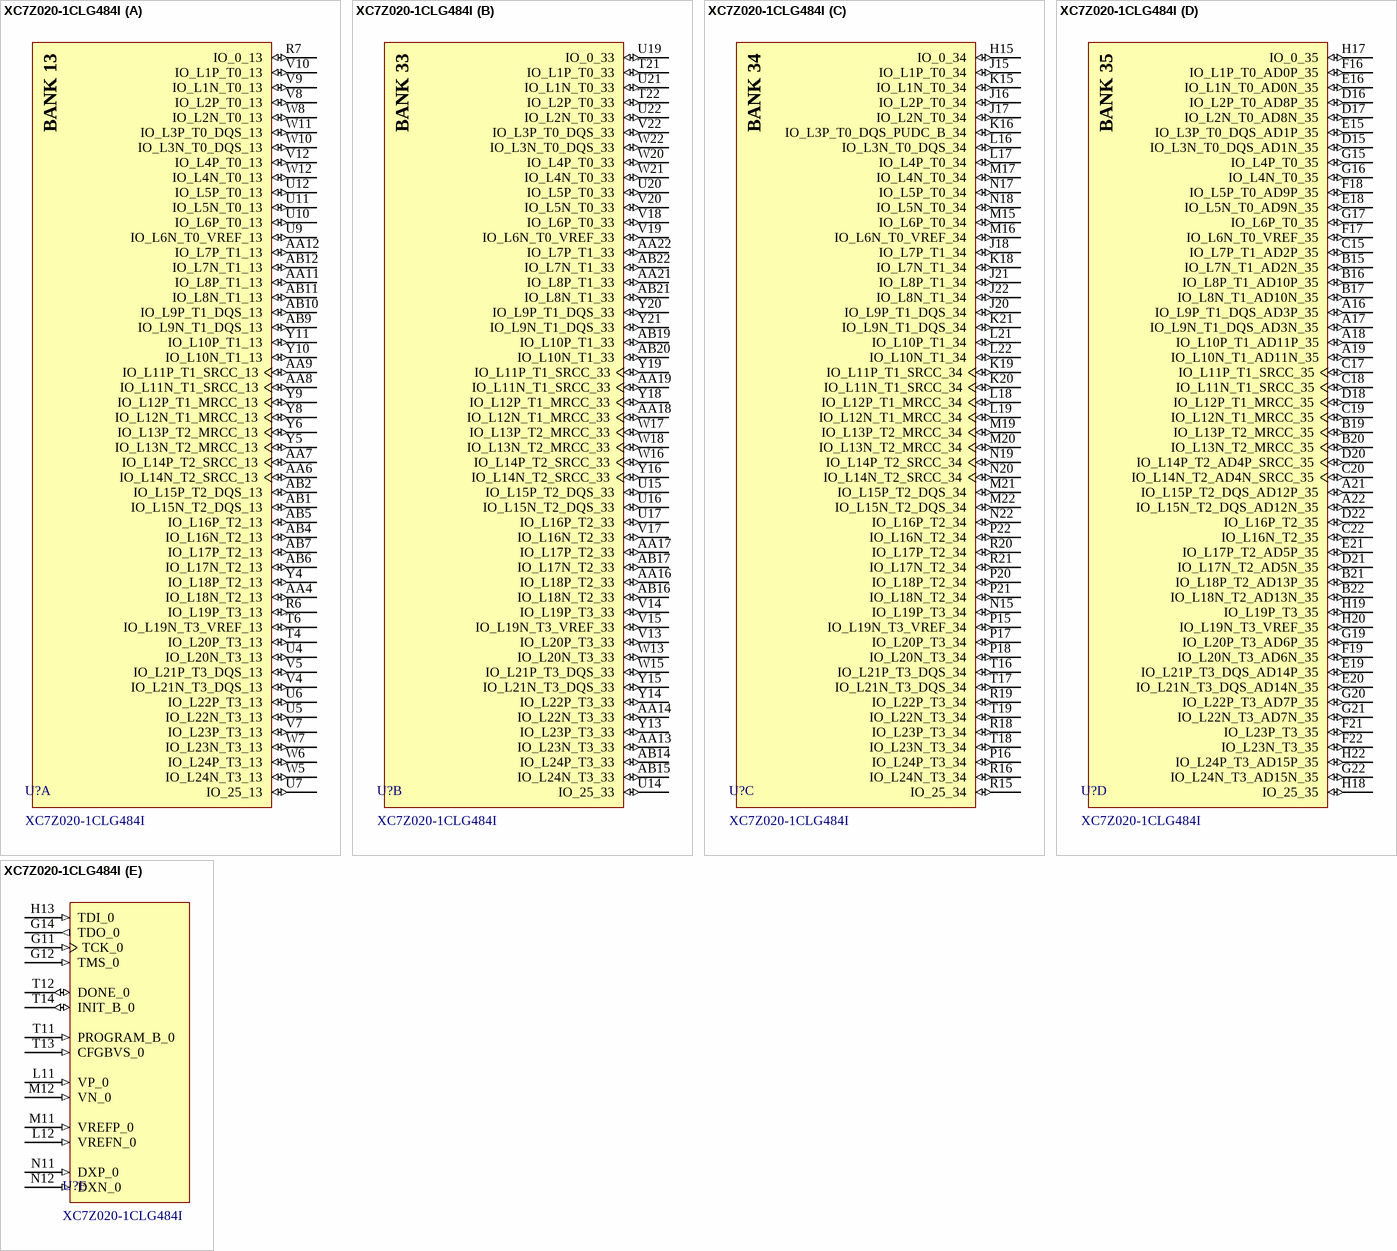
[diagram p2: symbol XC7Z020-1CLG484I]

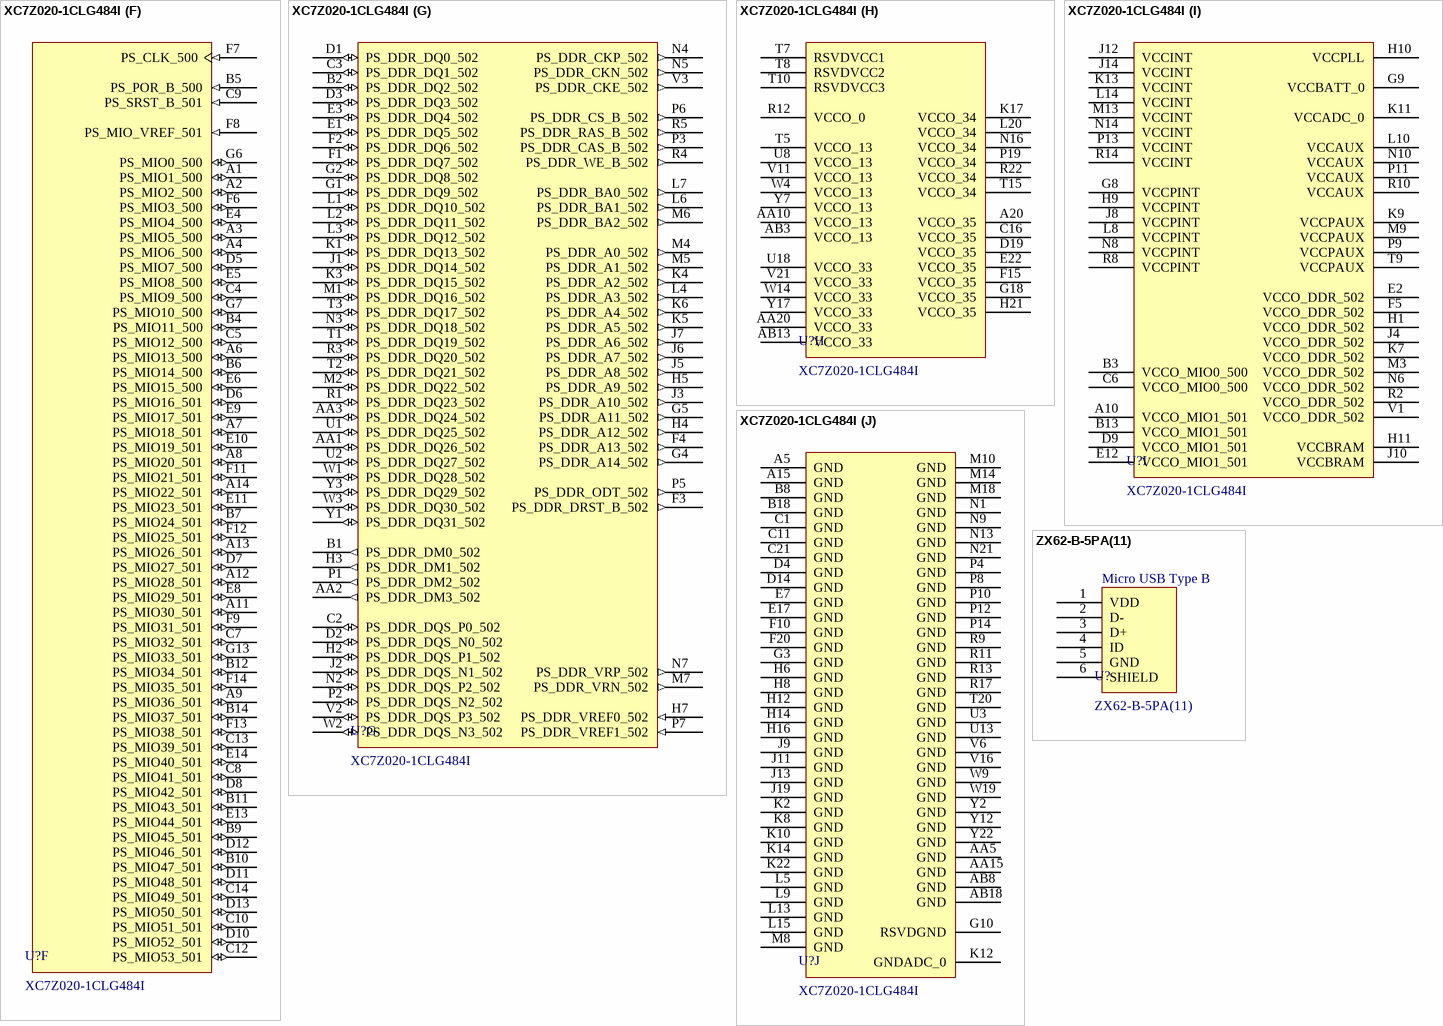
[diagram p3: symbols XC7Z020-1CLG484I to ZX62-B-5PA(11)]